# Altium schematic symbol library SkillDevSchemLib.SchLib: 3 symbols
Pins are listed as number, name and electrical type; pins without a type are passive.

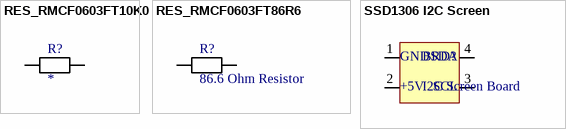
[diagram p0: symbols RES_RMCF0603FT10K0 to SSD1306 I2C Screen]

## RES_RMCF0603FT10K0
designator R?
RES 10K OHM 1% 1/10W 0603; Part Number: RMCF0603FT10K0; Manufacturer: Stackpole Electronics Inc
footprint RES_RMCF0603 (Footprint for RMCF0603FT10K0 Resistor)
pins: 1, 2

## RES_RMCF0603FT86R6
designator R?, comment 86.6 Ohm Resistor
86.6 Ohms ±1% 0.1W, 1/10W Chip Resistor 0603 (1608 Metric) Automotive AEC-Q200 Thick Film; Manufacturer: Stackpole Electronics Inc; Part Number: RMCF0603FT10K0
footprint RES_RMCF0603 (Footprint for RMCF0603FT10K0 Resistor)
pins: 1, 2

## SSD1306 I2C Screen
designator BRD?, comment I2C Screen Board
Hosyond 0.96 Inch OLED I2C IIC Display Module 12864 128x64 Pixel SSD1306 Mini Self-Luminous OLED Screen Board
footprint SSD1306 I2C Screen (Footprint for SSD1306 I2C screen on seperate board)
pins: 1 (power), 2 (power), 3, 4
text: GND; SDA; +5V; SCL